# Altium footprint library main_PCB_library.PcbLib: 7 footprints
Each footprint in its own frame and in the unit in brackets; x right, y up, seen from the top. Pads: shape width x height; smd on the part's side, far side on the other; paste and mask are expansions set on the pad; w line width, h text height; cw(c..) or ccw(c..) is an arc to the next point about the centre after c.
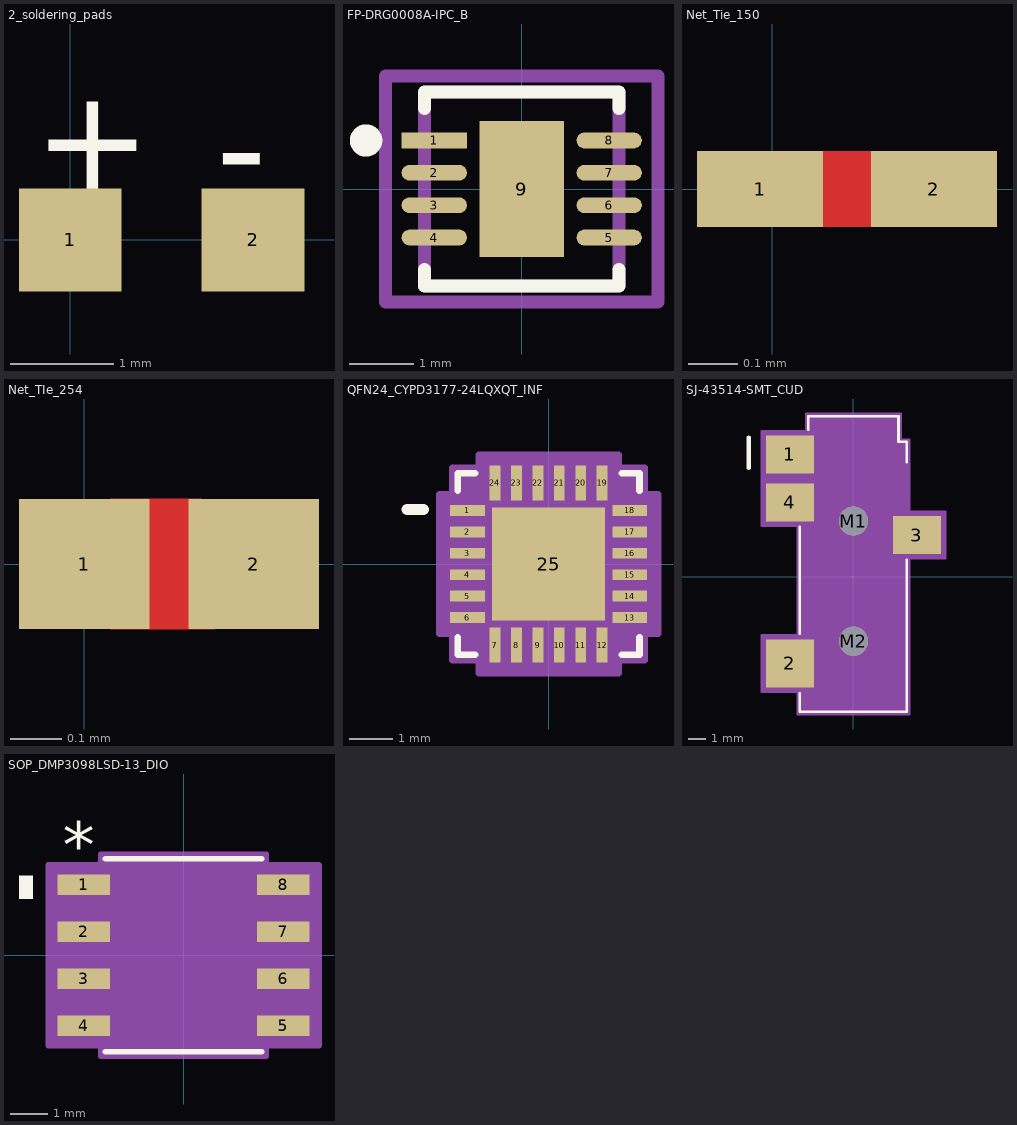
[diagram p0: the footprints below, top view; thin cyan lines are the x and y axes]

## 2_soldering_pads [mm]
pads (2):
  rect 1x1 smd paste-0.5 mask+0: 1(0,0) 2(1.778,0)
Top Overlay:
  text "-" at 1.42,0.412 h1
  text "+" at -0.358,0.491 h1

## FP-DRG0008A-IPC_B [mm]
pads (9):
  rect 1.01x0.242 smd paste-0.02 mask+0: 1(-1.351,0.75)
  rrect100% 1.01x0.242 smd paste-0.021 mask+0: 2(-1.351,0.25) 3(-1.351,-0.25) 4(-1.351,-0.75) 5(1.351,-0.75) 6(1.351,-0.25) 7(1.351,0.25) 8(1.351,0.75)
  rect 1.3x2.1 smd paste-0.084 mask+0: 9(0,0)
Top Overlay:
  circle w0.25: c-2.406,0.75 r0.125
  lines w0.2: -1.5,-1.246 -1.5,-1.5 1.5,-1.5 1.5,-1.246 ; -1.5,1.246 -1.5,1.5 1.5,1.5 1.5,1.246
Top Paste:
  rectangle: -0.359,-0.759 0.359,0.759
Top 3D Body:
  lines w0.2: -1.5,-1.5 1.5,-1.5 1.5,1.5 -1.5,1.5 -1.5,-1.5
Top Courtyard:
  lines w0.2: -2.106,-1.75 2.106,-1.75 2.106,1.75 -2.106,1.75 -2.106,-1.75
Top Assembly:
  lines w0.2: -2.106,-1.75 2.106,-1.75 2.106,1.75 -2.106,1.75 -2.106,-1.75
  text ".Designator" at 0,-0.001 h1
Top Component Center:
  lines w0.1: -0.5,0 0.5,0 ; 0,-0.5 0,0.5
3D body "IC_TEXAS_INSTRUMENTS_LP2951-33DRGR_eec.STEP": height 0.25, standoff 0, extent -2.106,-1.75 2.106,1.75

## Net_Tie_150 [mil]
pads (2):
  rect 10x6 smd paste-3 mask-10: 1(-0.98,0) 2(12.8,0)
Top Layer:
  region: 8.86,3 2.95,3 2.95,-3 8.86,-3

## Net_TIe_254 [mil]
pads (2):
  rect 10x10 smd paste-10 mask-10: 1(0,0) 2(13,0)
Top Layer:
  region: 9,5 2,5 2,-5 10,-5 10,4

## QFN24_CYPD3177-24LQXQT_INF [mil]
pads (25):
  rect 32x10 smd mask+0: 1(-74.5,49.21) 2(-74.5,29.53) 3(-74.5,9.84) 4(-74.5,-9.84) 5(-74.5,-29.53) 6(-74.5,-49.21) 13(74.5,-49.21) 14(74.5,-29.53) 15(74.5,-9.84) 16(74.5,9.84) 17(74.5,29.53) 18(74.5,49.21)
  rect 10x32 smd mask+0: 7(-49.21,-74.5) 8(-29.53,-74.5) 9(-9.84,-74.5) 10(9.84,-74.5) 11(29.53,-74.5) 12(49.21,-74.5) 19(49.21,74.5) 20(29.53,74.5) 21(9.84,74.5) 22(-9.84,74.5) 23(-29.53,74.5) 24(-49.21,74.5)
  rect 104x104 smd mask+0: 25(0,0)
Top Overlay:
  lines w6: -83.5,-67.31 -83.5,-83.5 -67.31,-83.5 ; -83.5,67.31 -83.5,83.5 -67.31,83.5 ; 67.31,-83.5 83.5,-83.5 83.5,-67.31 ; 67.31,83.5 83.5,83.5 83.5,67.31
  lines w10: -130,50 -115,50
Top Paste:
  region: -3.94,48.06 -48.06,48.06 -48.06,3.94 -3.94,3.94
  region: -3.94,-3.94 -48.06,-3.94 -48.06,-48.06 -3.94,-48.06
  region: 48.06,48.06 3.94,48.06 3.94,3.94 48.06,3.94
  region: 48.06,-3.94 3.94,-3.94 3.94,-48.06 48.06,-48.06
Mechanical 13:
  lines w1: -78.5,28.5 -28.5,78.5 ; -78.5,-78.5 78.5,-78.5 78.5,78.5 -78.5,78.5 -78.5,-78.5 ; -78.5,-55.21 -78.5,-43.21 -78.5,-55.21 ; -78.5,-35.53 -78.5,-23.53 -78.5,-35.53 ; -78.5,-15.84 -78.5,-3.84 -78.5,-15.84 ; -78.5,3.84 -78.5,15.84 -78.5,3.84 ; -78.5,23.53 -78.5,35.53 -78.5,23.53 ; -78.5,43.21 -78.5,55.21 -78.5,43.21 ; -55.21,-78.5 -43.21,-78.5 -55.21,-78.5 ; -55.21,78.5 -43.21,78.5 -55.21,78.5 ; -35.53,-78.5 -23.53,-78.5 -35.53,-78.5 ; -35.53,78.5 -23.53,78.5 -35.53,78.5 ; -15.84,-78.5 -3.84,-78.5 -15.84,-78.5 ; -15.84,78.5 -3.84,78.5 -15.84,78.5 ; 3.84,-78.5 15.84,-78.5 3.84,-78.5 ; 3.84,78.5 15.84,78.5 3.84,78.5 ; 23.53,-78.5 35.53,-78.5 23.53,-78.5 ; 23.53,78.5 35.53,78.5 23.53,78.5 ; 43.21,-78.5 55.21,-78.5 43.21,-78.5 ; 43.21,78.5 55.21,78.5 43.21,78.5 ; 78.5,-55.21 78.5,-43.21 78.5,-55.21 ; 78.5,-35.53 78.5,-23.53 78.5,-35.53 ; 78.5,-15.84 78.5,-3.84 78.5,-15.84 ; 78.5,3.84 78.5,15.84 78.5,3.84 ; 78.5,23.53 78.5,35.53 78.5,23.53 ; 78.5,43.21 78.5,55.21 78.5,43.21
  text "*" at -71,34.06 h50
Mechanical 15:
  region: -64.21,-88.5 -88.5,-88.5 -88.5,-64.21 -100.5,-64.21 -100.5,64.21 -88.5,64.21 -88.5,88.5 -64.21,88.5 -64.21,100.5 64.21,100.5 64.21,88.5 88.5,88.5 88.5,64.21 100.5,64.21 100.5,-64.21 88.5,-64.21 88.5,-88.5 64.21,-88.5 64.21,-100.5 -64.21,-100.5
  lines w6: -100.5,-64.21 -88.5,-64.21 -88.5,-88.5 -64.21,-88.5 -64.21,-100.5 64.21,-100.5 64.21,-88.5 88.5,-88.5 88.5,-64.21 100.5,-64.21 100.5,64.21 88.5,64.21 88.5,88.5 64.21,88.5 64.21,100.5 -64.21,100.5 -64.21,88.5 -88.5,88.5 -88.5,64.21 -100.5,64.21 -100.5,-64.21
3D body "QFN24_CYPD3177-24LQXQT_INF.step": height 24.09, standoff 0, extent -78.5,-78.5 78.5,78.5

## SJ-43514-SMT_CUD [mil]
pads (6):
  rect 110x87 smd paste+0 mask+0: 1(-145.7,281) 3(145.7,96) 4(-145.7,171)
  rect 110x110 smd paste+0 mask+0: 2(-145.7,-199)
  round 67 / inner round 60 / far side round 67 hole 67 unplated paste-99999 mask+0: M1(0,128) M2(0,-148)
Top Overlay:
  lines w6: -123,-267.1 -123,-310 123,-310 123,39.4 ; -123,-130.9 -123,114.4 ; -103.5,337.6 -103.5,369 103.5,369 103.5,310 123,310 123,263.6
  lines w10: -240,250 -240,320
Mechanical 13:
  lines w1: -118,-228.5 -177,-228.5 -177,-169.5 -118,-169.5 ; -118,155.5 -177,155.5 -177,186.5 -118,186.5 ; -118,265.5 -177,265.5 -177,296.5 -118,296.5 ; 118,76.5 177,76.5 177,115.5 118,115.5 ; -118,-305 118,-305 118,305 -118,305 -118,-305 ; -98.5,305 -98.5,364 98.5,364 98.5,305 -98.5,305
  text "RefDes2" at -87.5,-25 h50
Mechanical 15:
  region: -128,117.5 -128,-134 -210.7,-134 -210.7,-264 -128,-264 -128,-315 128,-315 128,42.5 210.7,42.5 210.7,149.5 128,149.5 128,315 108.5,315 108.5,374 -108.5,374 -108.5,334.5 -210.7,334.5 -210.7,227.5 -128,227.5 -128,224.5 -210.7,224.5 -210.7,117.5
  lines w6: -210.7,-264 -128,-264 -128,-315 128,-315 128,42.5 210.7,42.5 210.7,149.5 128,149.5 128,315 108.5,315 108.5,374 -108.5,374 -108.5,334.5 -210.7,334.5 -210.7,227.5 -128,227.5 -128,224.5 -210.7,224.5 -210.7,117.5 -128,117.5 -128,-134 -210.7,-134 -210.7,-264

## SOP_DMP3098LSD-13_DIO [mil]
pads (8):
  rect 56x22 smd paste+0 mask+0: 1(-106,75) 2(-106,25) 3(-106,-25) 4(-106,-75) 5(106,-75) 6(106,-25) 7(106,25) 8(106,75)
Top Overlay:
  rectangle: -175,60 -160,85
  lines w6: -83,-102.5 83,-102.5 ; -83,102.5 83,102.5
  text "*" at -128.5,92 h50
Mechanical 13:
  lines w0: -12,97.5 ccw(c0,97.5) 12,97.5
  lines w1: -120,-85 -120,-65 -78,-65 -78,-85 -120,-85 ; -120,-35 -120,-15 -78,-15 -78,-35 -120,-35 ; -120,15 -120,35 -78,35 -78,15 -120,15 ; -120,65 -120,85 -78,85 -78,65 -120,65 ; -78,-97.5 78,-97.5 78,97.5 -78,97.5 -78,-97.5 ; 78,-85 78,-65 120,-65 120,-85 78,-85 ; 78,-35 78,-15 120,-15 120,-35 78,-35 ; 78,15 78,35 120,35 120,15 78,15 ; 78,65 78,85 120,85 120,65 78,65
  text "*" at -75.5,44.5 h50
Mechanical 15:
  region: -88,-96 -144,-96 -144,96 -88,96 -88,107.5 88,107.5 88,96 144,96 144,-96 88,-96 88,-107.5 -88,-107.5
  lines w6: -144,-96 -144,96 -88,96 -88,107.5 88,107.5 88,96 144,96 144,-96 88,-96 88,-107.5 -88,-107.5 -88,-96 -144,-96
3D body "SOP_DMP3098LSD-13_DIO.step": height 69.09, standoff 0, extent -120,-97.48 120,97.48